# Altium integrated library SML-LXT0805GW-TR - Copy.IntLib: 1 symbol
Pins are listed as number, name and electrical type; pins without a type are passive.

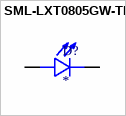
[diagram p0: symbol SML-LXT0805GW-TR]

## SML-LXT0805GW-TR
designator D?
Green LED, 565 nm 0805Diffused, Rectangle Lens SMD package | Lumex SML-LXT0805GW-TR; MF: Lumex Opto/Components; SnapEDA_Link: https://www.snapeda.com/parts/SML-LXT0805GW-TR/Lumex+Opto%252FComponents+Inc./view-part/?ref=snap; Package: 0805 Lumex; Value: *; MP: SML-LXT0805GW-TR; Check_prices: https://www.snapeda.com/parts/SML-LXT0805GW-TR/Lumex+Opto%252FComponents+Inc./view-part/?ref=eda
footprint LEDC2012X120N
pins: A, C